# Altium footprint library 0201Resistor_Yageo.PcbLib: 1 footprints
Each footprint in its own frame and in the unit in brackets; x right, y up, seen from the top. Pads: shape width x height; smd on the part's side, far side on the other; paste and mask are expansions set on the pad; w line width, h text height; cw(c..) or ccw(c..) is an arc to the next point about the centre after c.
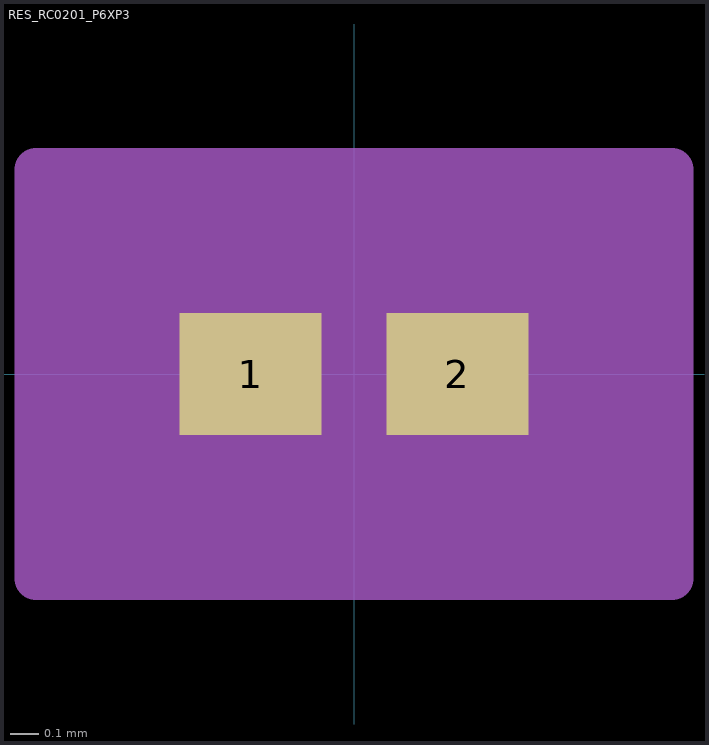
[diagram p0: the footprint, top view; thin cyan lines are the x and y axes]

## RES_RC0201_P6XP3 [mm]
pads (2):
  rect 0.503x0.43 smd paste+0 mask+0: 1(-0.366,0) 2(0.366,0)
Mechanical 5:
  region: 0.998,-0.596 -0.998,-0.596 -0.998,0.596 0.998,0.596
Mechanical 7:
Mechanical 13:
  circle w0: c-0.239,0 r0.076
  lines w0.025: -0.318,-0.165 -0.318,0.165 ; -0.318,-0.165 0.318,-0.165 ; -0.318,-0.165 -0.114,-0.165 -0.114,0.165 -0.318,0.165 ; -0.318,-0.165 -0.318,0.165 ; -0.318,0.165 0.318,0.165 ; 0.318,-0.165 0.318,0.165 ; 0.318,-0.165 0.318,0.165 ; 0.318,-0.165 0.114,-0.165 0.114,0.165 0.318,0.165
Mechanical 15:
  region: 1.125,-0.723 -1.125,-0.723 -1.125,0.723 1.125,0.723
  lines w0.152: -1.125,-0.723 1.125,-0.723 1.125,0.723 -1.125,0.723 -1.125,-0.723
3D body: height 0.25, standoff 0, extent 0,0 0.254,0.254